# Altium footprint library SMTV01-R15G15B09.PcbLib: 1 footprints
Each footprint in its own frame and in the unit in brackets; x right, y up, seen from the top. Pads: shape width x height; smd on the part's side, far side on the other; paste and mask are expansions set on the pad; w line width, h text height; cw(c..) or ccw(c..) is an arc to the next point about the centre after c.
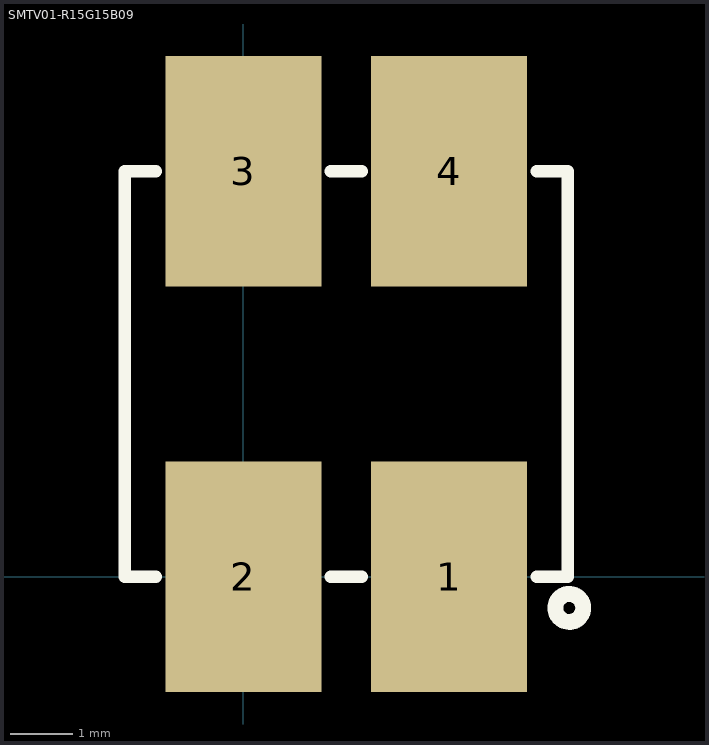
[diagram p0: the footprint, top view; thin cyan lines are the x and y axes]

## SMTV01-R15G15B09 [mm]
pads (4):
  rect 2.5x3.7 smd: 1(3.3,0) 2(0,0) 3(0,6.5) 4(3.3,6.5)
Top Overlay:
  circle w0.254: c5.224,-0.5 r0.224
  lines w0.2: -1.4,0 -1.9,0 -1.9,6.5 -1.4,6.5 ; 1.4,0 1.9,0 ; 1.4,6.5 1.9,6.5 ; 4.7,0 5.2,0 5.2,6.5 4.7,6.5